# Altium footprint library ATWINC1500-MR210PA.PcbLib: 1 footprints
Each footprint in its own frame and in the unit in brackets; x right, y up, seen from the top. Pads: shape width x height; smd on the part's side, far side on the other; paste and mask are expansions set on the pad; w line width, h text height; cw(c..) or ccw(c..) is an arc to the next point about the centre after c.
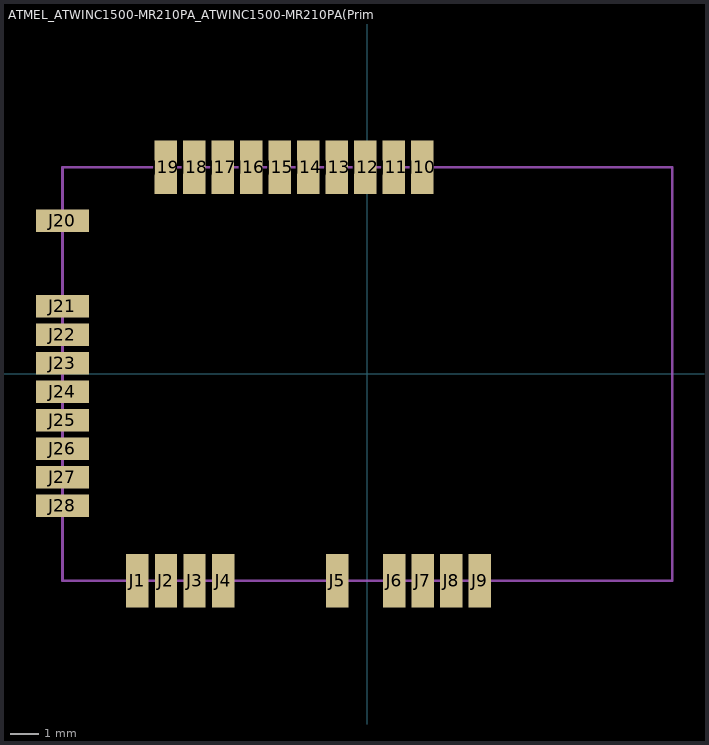
[diagram p0: the footprint, top view; thin cyan lines are the x and y axes]

## ATMEL_ATWINC1500-MR210PA_ATWINC1500-MR210PA(Primary) [mm]
pads (28):
  rect 0.8x1.9 smd: J1(-8.189,-7.368) J2(-7.173,-7.368) J3(-6.157,-7.368) J4(-5.141,-7.368) J5(-1.077,-7.368) J6(0.955,-7.368) J7(1.971,-7.368) J8(2.987,-7.368) J9(4.003,-7.368) J10(1.962,7.362) J11(0.946,7.362) J12(-0.07,7.362) J13(-1.086,7.362) J14(-2.102,7.362) J15(-3.118,7.362) J16(-4.134,7.362) J17(-5.15,7.362) J18(-6.166,7.362) J19(-7.182,7.362)
  rect 1.9x0.8 smd: J20(-10.861,5.462) J21(-10.861,2.414) J22(-10.861,1.398) J23(-10.861,0.382) J24(-10.861,-0.634) J25(-10.861,-1.65) J26(-10.861,-2.666) J27(-10.861,-3.682) J28(-10.861,-4.698)
Mechanical 1:
  lines w0.1: -10.86,-7.365 -10.86,7.365 10.86,7.365 10.86,-7.365 -10.86,-7.365